# Altium footprint library COMM_SCHPCB.PcbLib: 136 footprints (part 9 of 9)
Each footprint in its own frame and in the unit in brackets; x right, y up, seen from the top. Pads: shape width x height; smd on the part's side, far side on the other; paste and mask are expansions set on the pad; w line width, h text height; cw(c..) or ccw(c..) is an arc to the next point about the centre after c.
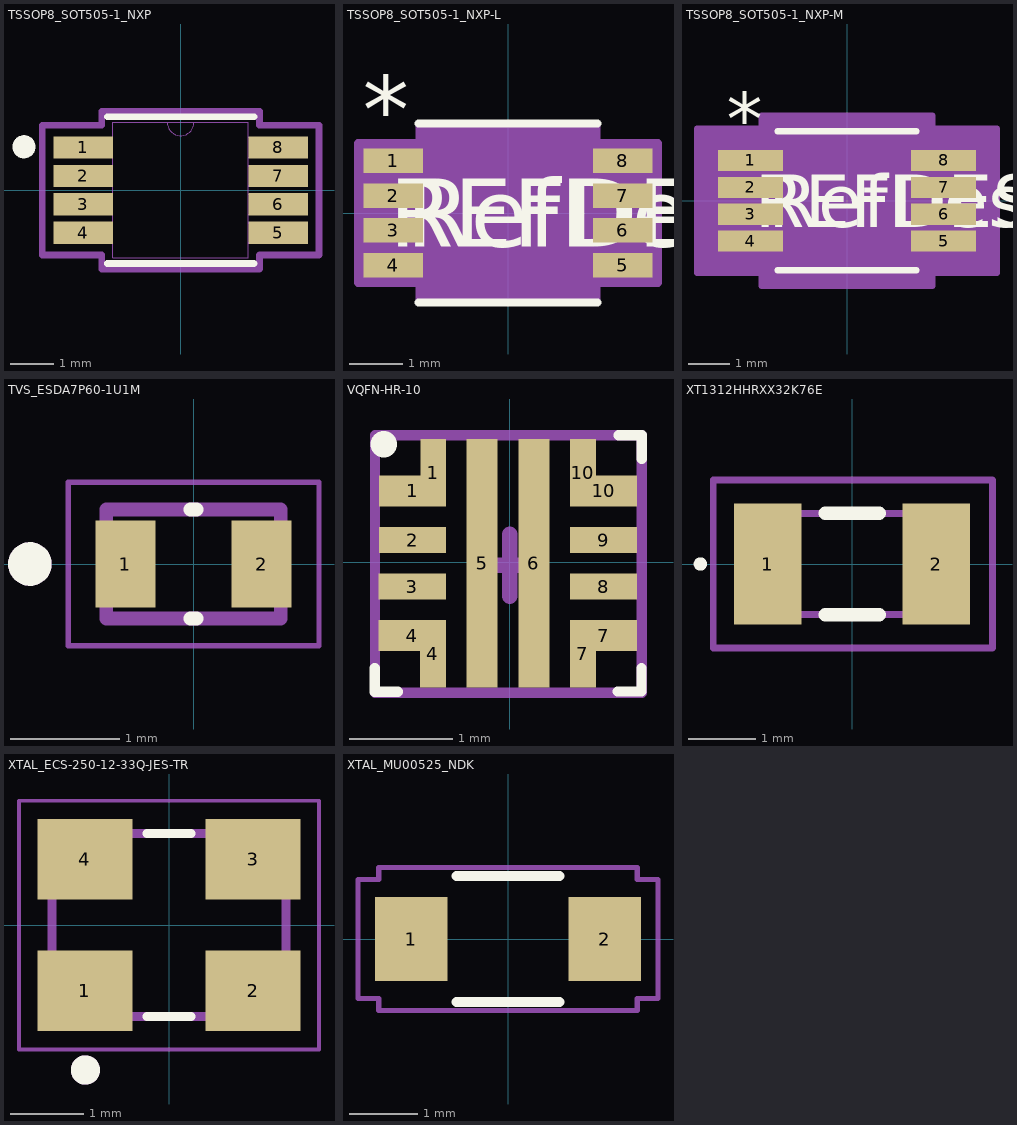
[diagram p8: the footprints below, top view; thin cyan lines are the x and y axes]

## TSSOP8_SOT505-1_NXP [mil]
pads (8):
  rect 53.5x20 smd paste+0 mask+0: 1(-87.75,38.39) 2(-87.75,12.8) 3(-87.75,-12.8) 4(-87.75,-38.39) 5(87.75,-38.39) 6(87.75,-12.8) 7(87.75,12.8) 8(87.75,38.39)
Top Overlay:
  circle w11.81: c-141,39 r4.47
  lines w6: -66,-66 66,-66 ; -66,66 66,66
Mechanical 13:
  lines w0: -12,61 ccw(c0,61) 12,61
  lines w1: -100.5,-47.39 -61,-47.39 -61,-29.39 -100.5,-29.39 -100.5,-47.39 ; -100.5,-21.8 -61,-21.8 -61,-3.8 -100.5,-3.8 -100.5,-21.8 ; -100.5,3.8 -61,3.8 -61,21.8 -100.5,21.8 -100.5,3.8 ; -100.5,29.39 -61,29.39 -61,47.39 -100.5,47.39 -100.5,29.39 ; -61,-61 -61,61 61,61 61,-61 -61,-61 ; 61,-47.39 100.5,-47.39 100.5,-29.39 61,-29.39 61,-47.39 ; 61,-21.8 100.5,-21.8 100.5,-3.8 61,-3.8 61,-21.8 ; 61,3.8 100.5,3.8 100.5,21.8 61,21.8 61,3.8 ; 61,29.39 100.5,29.39 100.5,47.39 61,47.39 61,29.39
Mechanical 15:
  lines w6: -124.5,-58.39 -71,-58.39 -71,-71 71,-71 71,-58.39 124.5,-58.39 124.5,58.39 71,58.39 71,71 -71,71 -71,58.39 -124.5,58.39 -124.5,-58.39
3D body "TSSOP8_SOT505-1_NXP.step": height 43.11, standoff 0, extent -100.51,-60.98 100.51,60.98

## TSSOP8_SOT505-1_NXP-L [mil]
pads (8):
  rect 44x18 smd paste+0 mask+0: 1(-84.5,38.39) 2(-84.5,12.8) 3(-84.5,-12.8) 4(-84.5,-38.39) 5(84.5,-38.39) 6(84.5,-12.8) 7(84.5,12.8) 8(84.5,38.39)
Top Overlay:
  lines w6: -66,-66 66,-66 ; -66,66 66,66
  text "RefDes" at -75,-25 h50
  text "*" at -107,51.39 h50
  text "REFDES" at -87.5,-25 h50
Mechanical 13:
  lines w0: -12,61 ccw(c0,61) 12,61
  lines w1: -100.5,-47.39 -61,-47.39 -61,-29.39 -100.5,-29.39 -100.5,-47.39 ; -100.5,-21.8 -61,-21.8 -61,-3.8 -100.5,-3.8 -100.5,-21.8 ; -100.5,3.8 -61,3.8 -61,21.8 -100.5,21.8 -100.5,3.8 ; -100.5,29.39 -61,29.39 -61,47.39 -100.5,47.39 -100.5,29.39 ; -61,-61 -61,61 61,61 61,-61 -61,-61 ; 61,-47.39 100.5,-47.39 100.5,-29.39 61,-29.39 61,-47.39 ; 61,-21.8 100.5,-21.8 100.5,-3.8 61,-3.8 61,-21.8 ; 61,3.8 100.5,3.8 100.5,21.8 61,21.8 61,3.8 ; 61,29.39 100.5,29.39 100.5,47.39 61,47.39 61,29.39
  text "RefDes2" at -87.5,-25 h50
  text "*" at -58.5,8 h50
Mechanical 15:
  region: -65,-51.39 -110.5,-51.39 -110.5,51.39 -65,51.39 -65,65 65,65 65,51.39 110.5,51.39 110.5,-51.39 65,-51.39 65,-65 -65,-65
  lines w6: -110.5,-51.39 -65,-51.39 -65,-65 65,-65 65,-51.39 110.5,-51.39 110.5,51.39 65,51.39 65,65 -65,65 -65,51.39 -110.5,51.39 -110.5,-51.39
3D body "TSSOP8_SOT505-1_NXP.step": height 43.11, standoff 0, extent -100.51,-60.98 100.51,60.98

## TSSOP8_SOT505-1_NXP-M [mil]
pads (8):
  rect 61.5x20 smd paste+0 mask+0: 1(-91.75,38.39) 2(-91.75,12.8) 3(-91.75,-12.8) 4(-91.75,-38.39) 5(91.75,-38.39) 6(91.75,-12.8) 7(91.75,12.8) 8(91.75,38.39)
Top Overlay:
  lines w6: -66,-66 66,-66 ; -66,66 66,66
  text "REFDES" at -87.5,-25 h50
  text "*" at -114.25,53.39 h50
  text "RefDes" at -75,-25 h50
Mechanical 13:
  lines w0: -12,61 ccw(c0,61) 12,61
  lines w1: -100.5,-47.39 -100.5,-29.39 -61,-29.39 -61,-47.39 -100.5,-47.39 ; -100.5,-21.8 -100.5,-3.8 -61,-3.8 -61,-21.8 -100.5,-21.8 ; -100.5,3.8 -100.5,21.8 -61,21.8 -61,3.8 -100.5,3.8 ; -100.5,29.39 -100.5,47.39 -61,47.39 -61,29.39 -100.5,29.39 ; -61,-61 61,-61 61,61 -61,61 -61,-61 ; 61,-47.39 61,-29.39 100.5,-29.39 100.5,-47.39 61,-47.39 ; 61,-21.8 61,-3.8 100.5,-3.8 100.5,-21.8 61,-21.8 ; 61,3.8 61,21.8 100.5,21.8 100.5,3.8 61,3.8 ; 61,29.39 61,47.39 100.5,47.39 100.5,29.39 61,29.39
  text "*" at -58.5,8 h50
  text "RefDes2" at -87.5,-25 h50
Mechanical 15:
  region: -81,-68.39 -142.5,-68.39 -142.5,68.39 -81,68.39 -81,81 81,81 81,68.39 142.5,68.39 142.5,-68.39 81,-68.39 81,-81 -81,-81
  lines w6: -142.5,-68.39 -142.5,68.39 -81,68.39 -81,81 81,81 81,68.39 142.5,68.39 142.5,-68.39 81,-68.39 81,-81 -81,-81 -81,-68.39 -142.5,-68.39
3D body "TSSOP8_SOT505-1_NXP.step": height 43.11, standoff 0, extent -100.51,-60.98 100.51,60.98

## TVS_ESDA7P60-1U1M [mm]
height 0.6
pads (2):
  rect 0.55x0.8 smd: 1(-0.625,0) 2(0.625,0)
Top Overlay:
  circle w0.2: c-1.5,0 r0.1
  lines w0.127: -0.03,-0.5 0.03,-0.5 ; -0.03,0.5 0.03,0.5
Mechanical 13:
  circle w0.2: c-1.5,0 r0.1
  lines w0.127: -0.8,-0.5 0.8,-0.5 0.8,0.5 -0.8,0.5 -0.8,-0.5
Mechanical 15:
  lines w0.05: -1.15,-0.75 -1.15,0.75 1.15,0.75 1.15,-0.75 -1.15,-0.75

## VQFN-HR-10 [mm]
pads (14):
  rect 0.65x0.3 smd: 1(-0.938,0.692) 4(-0.941,-0.708) 7(0.909,-0.708) 10(0.909,0.692)
  rect 0.25x0.65 smd: 1(-0.738,0.867) 4(-0.741,-0.883) 7(0.709,-0.883) 10(0.709,0.867)
  rect 0.65x0.25 smd: 2(-0.938,0.216) 3(-0.941,-0.233) 8(0.909,-0.233) 9(0.909,0.216)
  rect 0.3x2.4 smd: 5(-0.265,-0.008) 6(0.235,-0.007)
Top Overlay:
  lines w0.1: -1.304,-1.022 -1.304,-1.25 -1.078,-1.25 ; 1.047,-1.247 1.275,-1.247 1.275,-1.021 ; 1.053,1.228 1.279,1.228 1.279,1
  lines w0.254: -1.216,1.143 -1.213,1.143
Top 3D Body:
  lines w0.1: -1.301,-1.261 -1.301,1.231 1.278,1.231 1.278,-1.261 -1.301,-1.261
  lines w0.15: -0.298,-0.027 0.302,-0.027 ; 0.002,-0.327 0.002,0.273
3D body "TPS259470ARPWR.step": height 1, standoff 0, extent -1.028,-1.005 0.972,0.995

## XT1312HHRXX32K76E [mm]
pads (2):
  rect 1x1.8 smd: 1(-1.25,0) 2(1.25,0)
Top Overlay:
  lines w0.1: -2.3,0 ccw(c-2.25,0) -2.2,0 ccw(c-2.25,0) -2.3,0
  lines w0.2: -0.4,-0.75 0.4,-0.75 ; -0.4,0.75 0.4,0.75
Mechanical 15:
  lines w0.1: -1.6,-0.75 -1.6,0.75 1.6,0.75 1.6,-0.75 -1.6,-0.75
Mechanical 20:
  lines w0.1: -2.057,-1.245 -2.057,1.245 2.083,1.245 2.083,-1.245 -2.057,-1.245
3D body "XT1312HHRXX32K76E.stp": height 0.81, standoff 0, extent -1.6,-0.725 1.6,0.775

## XTAL_ECS-250-12-33Q-JES-TR [mm]
pads (4):
  rect 1.3x1.1 smd: 1(-1.15,-0.9) 2(1.15,-0.9) 3(1.15,0.9) 4(-1.15,0.9)
Top Overlay:
  circle w0.2: c-1.143,-1.981 r0.1
  lines w0.127: -0.3,-1.25 0.3,-1.25 ; -0.3,1.25 0.3,1.25
Mechanical 13:
  circle w0.2: c-1.143,-1.981 r0.1
  lines w0.127: -1.6,-1.25 -1.6,1.25 1.6,1.25 1.6,-1.25 -1.6,-1.25
Mechanical 15:
  lines w0.05: -2.05,-1.7 -2.05,1.7 2.05,1.7 2.05,-1.7 -2.05,-1.7
3D body "step_temp.STEP": height 0.8, standoff 0, extent -1.6,-1.25 1.6,1.25

## XTAL_MU00525_NDK [mil]
pads (2):
  rect 42x49 smd: 1(-56,0) 2(56,0)
Top Overlay:
  lines w6: -29.75,-36.5 29.75,-36.5 ; -29.75,36.5 29.75,36.5
Mechanical 15:
  lines w3: -87,-34.5 -75,-34.5 -75,-41.5 75,-41.5 75,-34.5 87,-34.5 87,34.5 75,34.5 75,41.5 -75,41.5 -75,34.5 -87,34.5 -87,-34.5
3D body "XTAL_MU00525_NDK.step": height 35.12, standoff 0, extent -65,-31.5 65,31.5